# Altium footprint library General_Connector.PcbLib: 15 footprints
Each footprint in its own frame and in the unit in brackets; x right, y up, seen from the top. Pads: shape width x height; smd on the part's side, far side on the other; paste and mask are expansions set on the pad; w line width, h text height; cw(c..) or ccw(c..) is an arc to the next point about the centre after c.
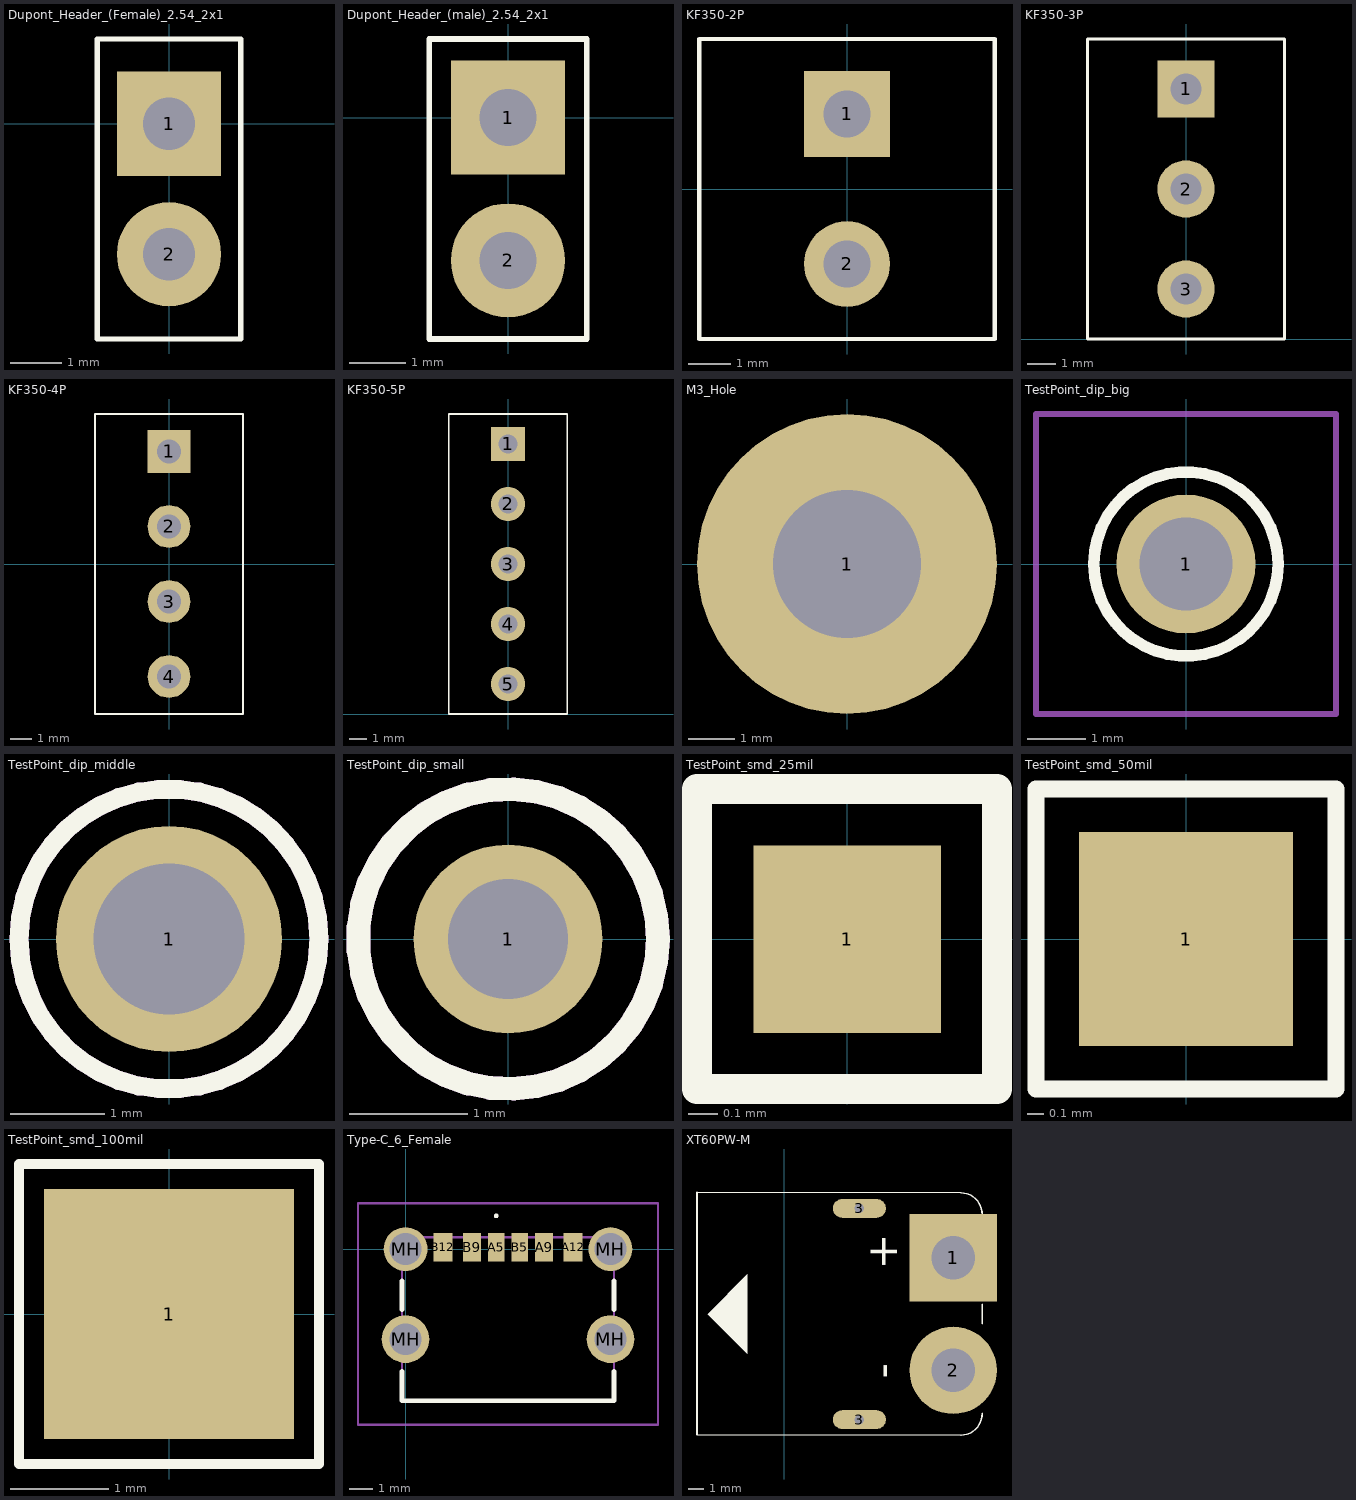
[diagram p0: the footprints below, top view; thin cyan lines are the x and y axes]

## Dupont_Header_(Female)_2.54_2x1 [mil] "Dupont Header (Female) 2x1"
pads (2):
  rect 80x80 hole 40: 1(0,0)
  round 80 hole 40: 2(0,-100)
Top Overlay:
  lines w3.94: -55,-165 -55,65 55,65 55,-165 -55,-165
3D body "M20-7820242.stp": height 335.15, standoff -117.61, extent -49.21,-157.87 49.21,57.87

## Dupont_Header_(male)_2.54_2x1 [mil] "Dupont Header (male) 2x1"
pads (2):
  rect 80x80 hole 40: 1(0,0)
  round 80 hole 40: 2(0,-100)
Top Overlay:
  lines w3.94: -55,-155 55,-155 55,55 -55,55 -55,-155
3D body "Dupont_Pin.STEP": height 327.27, standoff -117.61, extent -50,-50 50,50
3D body "Dupont_Pin.STEP": height 327.27, standoff -117.61, extent -50,-150 50,-50

## KF350-2P [mm]
pads (2):
  rect 2x2 hole 1.1: 1(0,1.75)
  round 2 hole 1.1: 2(0,-1.75)
Top Overlay:
  lines w0.1: -3.45,-3.5 3.45,-3.5 3.45,3.5 -3.45,3.5 -3.45,-3.5
3D body "Screw Terminal Block 3.5mm 2-way.step": height 8.41, standoff -1.99, extent -3.371,-3.65 3.429,3.65

## KF350-3P [mm]
pads (3):
  rect 2x2 hole 1.1: 1(0,8.75)
  round 2 hole 1.1: 2(0,5.25) 3(0,1.75)
Top Overlay:
  lines w0.1: -3.45,0 3.45,0 3.45,10.5 -3.45,10.5 -3.45,0
3D body "Screw Terminal Block 3.5mm 3-way.step": height 8.41, standoff -1.99, extent -3.4,-0.15 3.4,10.65

## KF350-4P [mm]
pads (4):
  rect 2x2 hole 1.1: 1(0,5.25)
  round 2 hole 1.1: 2(0,1.75) 3(0,-1.75) 4(0,-5.25)
Top Overlay:
  lines w0.1: -3.45,-7 -3.45,7 3.45,7 3.45,-7 -3.45,-7
3D body "Screw Terminal Block 3.5mm 4-way.step": height 8.41, standoff -1.99, extent -3.4,-7.15 3.4,7.15

## KF350-5P [mm]
pads (5):
  rect 2x2 hole 1.1: 1(0,15.75)
  round 2 hole 1.1: 2(0,12.25) 3(0,8.75) 4(0,5.25) 5(0,1.75)
Top Overlay:
  lines w0.1: -3.45,0 3.45,0 3.45,17.5 -3.45,17.5 -3.45,0
3D body "Screw Terminal Block 3.5mm 5-way.step": height 8.41, standoff -1.99, extent -3.4,-0.15 3.4,17.65

## M3_Hole [mm]
pads (1):
  round 6.5 hole 3.2: 1(0,0)

## TestPoint_dip_big [mm] "Length: 11.3 mm Outside Diameter: 3.17 mm"
pads (1):
  round 2.4 hole 1.6: 1(0,0)
Top Overlay:
  lines w0.2: -1.59,0 ccw(c0,0) 1.59,0 ccw(c0,0) -1.59,0
Top 3D Body:
  lines w0.1: -1.59,0 ccw(c0,0) 1.59,0 ccw(c0,0) -1.59,0
Bottom 3D Body:
  lines w0.1: -2.59,-2.59 2.59,-2.59 2.59,2.59 -2.59,2.59 -2.59,-2.59
3D body "5010.stp": height 8.13, standoff -3.14, extent -1.6,-1.597 1.6,1.597

## TestPoint_dip_middle [mm] "Length: 8.89 mm Outside Diameter: 3.18 mm"
pads (1):
  round 2.4 hole 1.6: 1(0,0)
Top Overlay:
  circle w0.2: c0,0 r1.59
Top 3D Body:
  circle w0.2: c0,0 r1.59
3D body "5005.STEP": height 5.6, standoff -3.29, extent -1.587,-1.587 1.587,1.587

## TestPoint_dip_small [mm] "Length: 7.62 mm Outside Diameter: 2.54 mm"
pads (1):
  round 1.6 hole 1.02: 1(0,0)
Top Overlay:
  circle w0.2: c0,0 r1.27
Top 3D Body:
  circle w0.2: c0,0 r1.27
  circle w0.2: c0,0 r1.27
3D body "5001.stp": height 4.82, standoff -2.79, extent -1.26,-1.267 1.27,1.267

## TestPoint_smd_25mil [mm] "Diameter: 0.535 mm"
pads (1):
  rect 0.635x0.635 smd: 1(0,0)
Top Overlay:
  lines w0.1: -0.508,-0.508 0.508,-0.508 0.508,0.508 -0.508,0.508 -0.508,-0.508

## TestPoint_smd_50mil [mm] "Diameter: 1.27 mm"
pads (1):
  rect 1.27x1.27 smd: 1(0,0)
Top Overlay:
  lines w0.1: -0.889,-0.889 -0.889,0.889 0.889,0.889 0.889,-0.889 -0.889,-0.889

## TestPoint_smd_100mil [mm] "Diameter: 2.54 mm"
pads (1):
  rect 2.54x2.54 smd: 1(0,0)
Top Overlay:
  lines w0.1: -1.524,-1.524 1.524,-1.524 1.524,1.524 -1.524,1.524 -1.524,-1.524

## Type-C_6_Female [mm] "5A 1 Surface Mount 6 Female -25℃~+85℃ Type-C SMD  USB Connectors ROHS"
pads (10):
  rect 0.7x1.2 smd: A5(3.82,0.08) B5(4.82,0.08)
  rect 0.76x1.2 smd: A9(5.84,0.08) B9(2.8,0.08)
  rect 0.8x1.2 smd: A12(7.07,0.08) B12(1.57,0.08)
  round 2.01 hole 1.34: MH(0,-3.8) MH(8.64,-3.8)
  round 1.85 hole 1.34: MH(0,0) MH(8.64,0)
Top Overlay:
  lines w0.1: 3.82,1.35 ccw(c3.82,1.4) 3.82,1.45 ccw(c3.82,1.4) 3.82,1.35
  lines w0.2: -0.15,-5.15 -0.15,-6.4 8.79,-6.4 8.79,-5.15 ; -0.15,-2.55 -0.15,-1.35 ; 8.79,-2.55 8.79,-1.35
Top 3D Body:
  lines w0.1: -0.15,-6.4 -0.15,0.5 8.79,0.5 8.79,-6.4 -0.15,-6.4
Bottom 3D Body:
  lines w0.1: -2.005,-7.4 -2.005,1.925 10.645,1.925 10.645,-7.4 -2.005,-7.4
3D body "10164359-00011LF.stp": height 3.25, standoff -0.91, extent -0.15,-6.19 8.79,0.71

## XT60PW-M [mm]
pads (4):
  rect 5.6x5.6 hole 2.8: 1(10.795,-19.304)
  round 5.6 hole 2.8: 2(10.795,-26.504)
  oval 3.4x1.2 hole 0.6 square: 3(4.795,-29.654) 3(4.795,-16.154)
Top Overlay:
  region: -4.905,-22.904 -2.365,-25.444 -2.365,-20.364
  lines w0.1: 12.645,-29.254 cw(c11.27,-29.279) 11.295,-30.654 -5.588,-30.613 -5.588,-15.113 11.295,-15.154 cw(c11.27,-16.529) 12.645,-16.554 ; 12.645,-23.539 12.645,-22.269
  text "-" at 7.225,-27.049 h2
  text "+" at 7.225,-20.064 h2
3D body "XT60PW-M.STEP": height 8.41, standoff -2.19, extent -5.544,-30.607 12.656,-15.107